# Altium footprint library PCB - CONNECTOR - OST - OST OSTTE060161.PcbLib: 1 footprints
Each footprint in its own frame and in the unit in brackets; x right, y up, seen from the top. Pads: shape width x height; smd on the part's side, far side on the other; paste and mask are expansions set on the pad; w line width, h text height; cw(c..) or ccw(c..) is an arc to the next point about the centre after c.
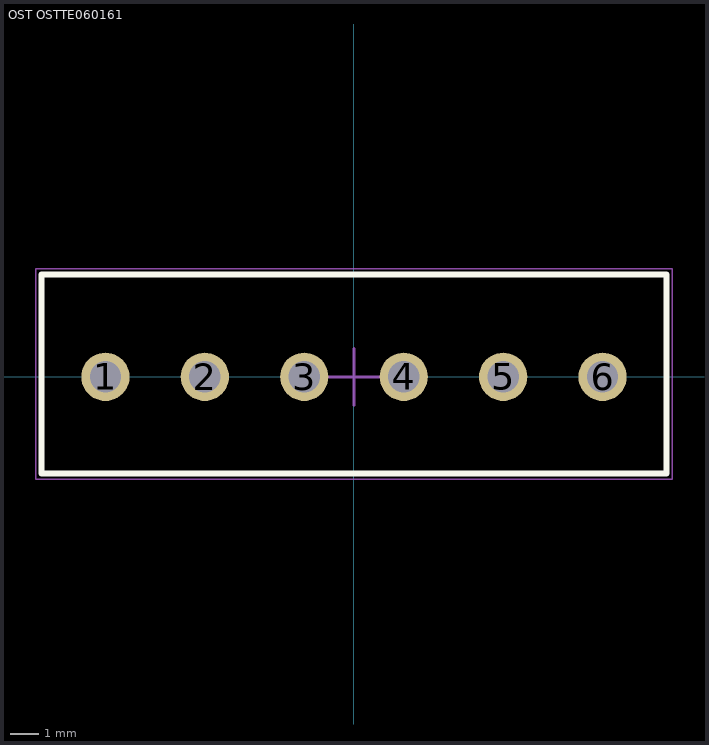
[diagram p0: the footprint, top view; thin cyan lines are the x and y axes]

## OST OSTTE060161 [mm] "Wire to Board Terminal Block Horizontal with Board Through Hole, 6 Position, 3.5mm Pitch, 22x7.0 mm Body"
height 8.4
pads (6):
  round 1.7 hole 1.1: 1(-8.75,0) 2(-5.25,0) 3(-1.75,0) 4(1.75,0) 5(5.25,0) 6(8.75,0)
Top Overlay:
  lines w0.2: -11,-3.4 -11,3.6 11,3.6 11,-3.4 -11,-3.4
Mechanical 13:
  lines w0.1: -11,-3.4 -11,3.6 11,3.6 11,-3.4 -11,-3.4
Mechanical 15 (Mech15):
  lines w0.05: -11.2,-3.6 -11.2,3.8 11.2,3.8 11.2,-3.6 -11.2,-3.6
  lines w0.1: -1,0 0,0 ; 0,-1 0,0 ; 0,1 0,0 ; 1,0 0,0
3D body "OST - OSTTE060161 v3.step": height 8.7, standoff -3.32, extent -11,-3.4 11,3.6